# Altium integrated library Microchip Wireless.IntLib: 91 symbols (part 3 of 3)
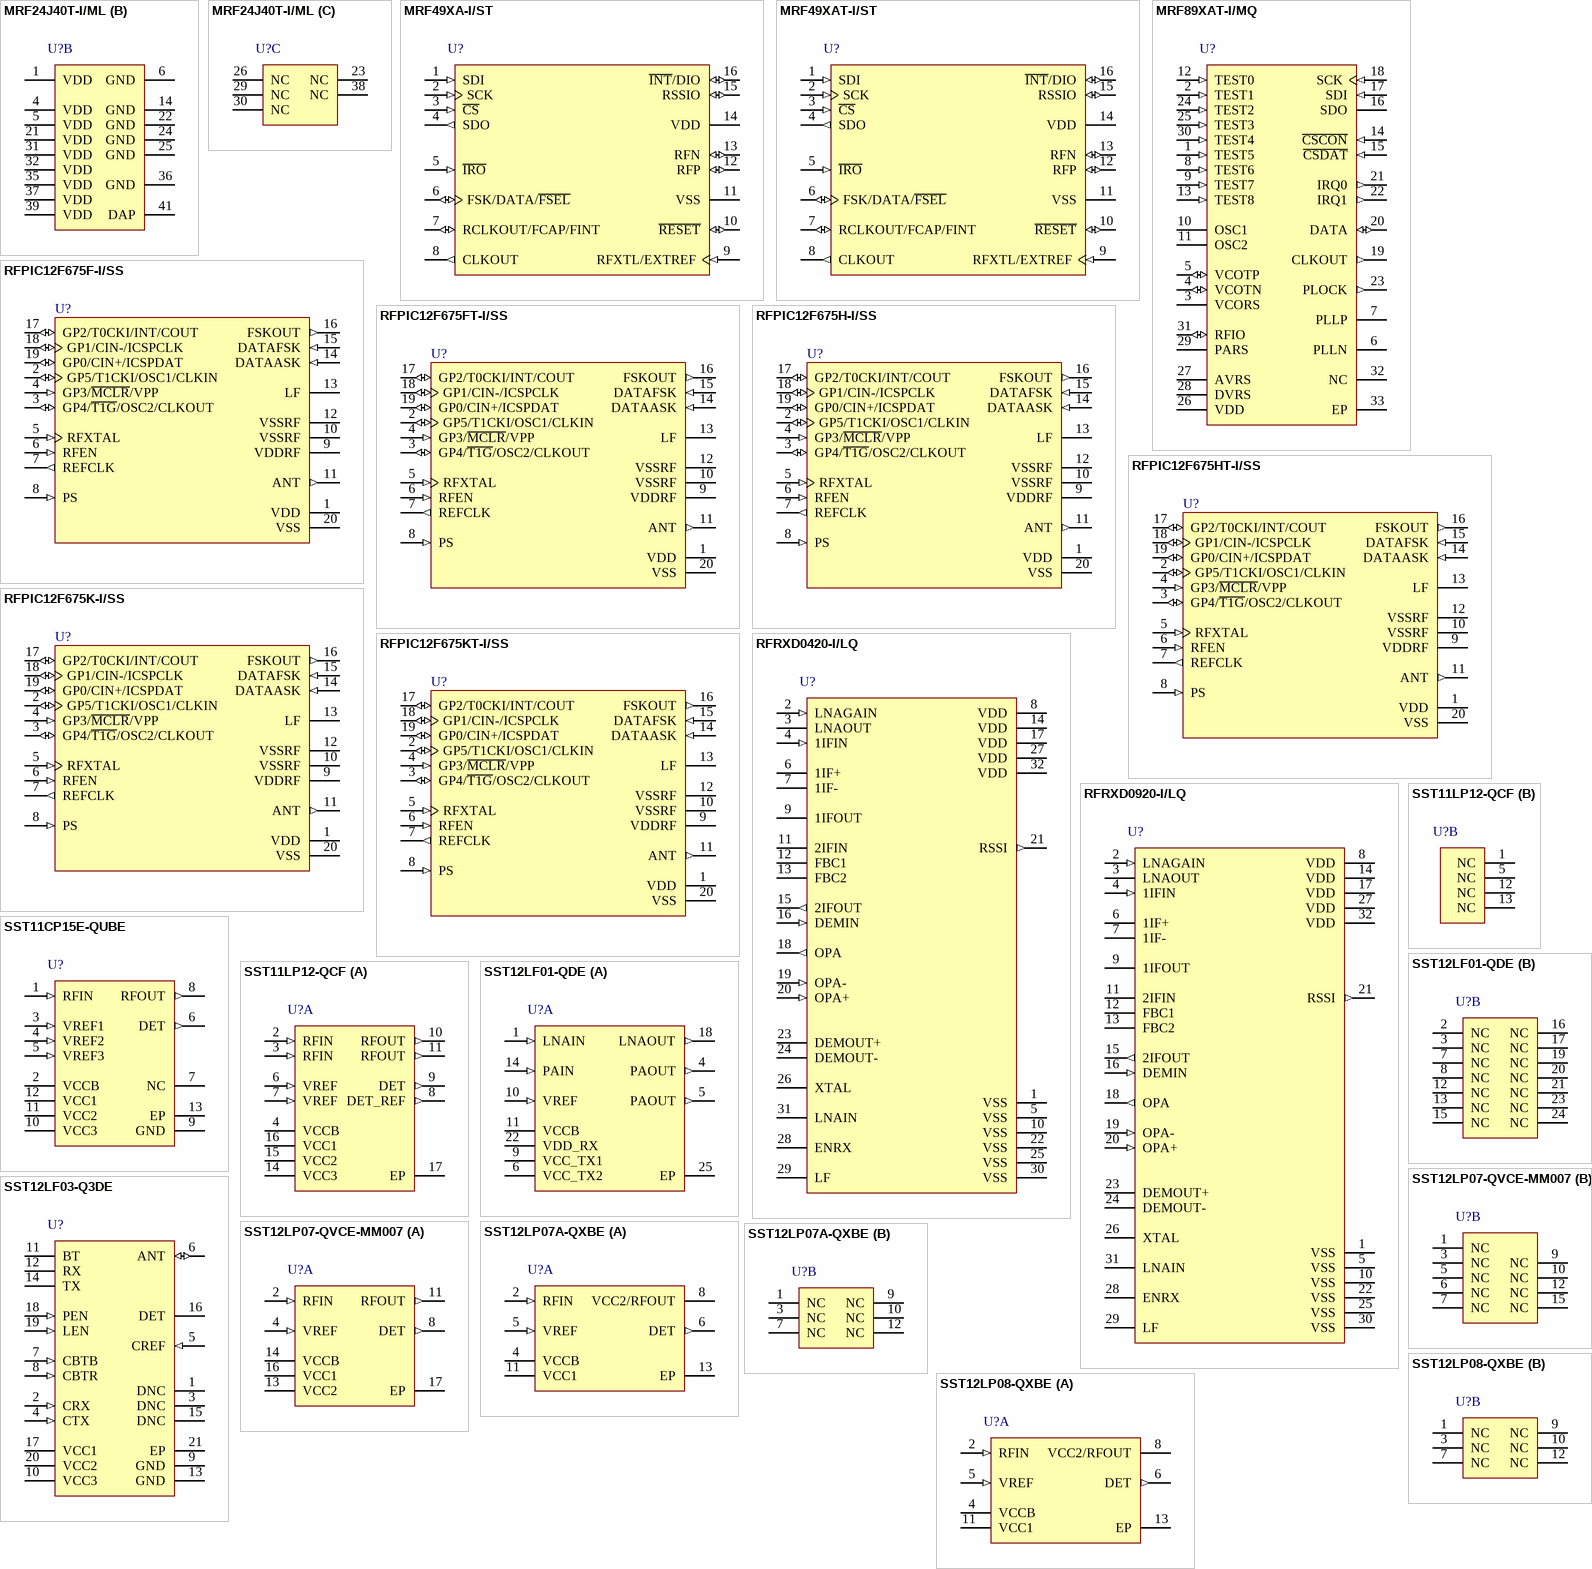
[diagram p5: symbols MRF24J40T-I/ML to SST12LP08-QXBE]

## RFPIC12F675F-I/SS
designator U?
FLASH-Based Microcontroller with ASK/FSK Transmitter, 434 MHz, 20-Pin SSOP, Industrial Temperature; Manufacturer: Microchip; PartNumber: RFPIC12F675F-I/SS; DatasheetVersion: revA, Apr-2003; PackageVersion: revBB, Aug-2009; PackageReference: SSOP-SS20; PackageDescription: 20-Lead Plastic Shrink Small Outline (SS) - 5.3mm Body [SSOP]; Supplier 1: Digi-Key; Supplier Part Number 1: RFPIC12F675F-I/SS-ND; Supplier 2: Newark; Supplier Part Number 2: 67K3329; Supplier 3: Mouser; Supplier Part Number 3: 579-PIC12F675F-I/SS; Mounting Technology: Surface Mount; Code_JEDEC: MO-150; ComponentLink1Description: Manufacturer URL; ComponentLink1URL: http://www.microchip.com/; ComponentLink2Description: Datasheet; ComponentLink2URL: http://ww1.microchip.com/downloads/en/DeviceDoc/70091a.pdf; ComponentLink3Description: Package Specification; ComponentLink3URL: http://www.microchip.com/stellent/groups/techpub_sg/documents/packagingspec/en012702.pdf
footprint SSOP-SS20_N (SOP, 20-Leads, Body 7.2x5.2mm, Pitch 0.65mm, IPC Medium Density)
footprint SSOP-SS20_L (SOP, 20-Leads, Body 7.2x5.2mm, Pitch 0.65mm, IPC High Density)
footprint SSOP-SS20_M (SOP, 20-Leads, Body 7.2x5.2mm, Pitch 0.65mm, IPC Low Density)
pins: 1 VDD (power), 2 GP5/T1CKI/OSC1/CLKIN (io), 3 GP4/~{T1G}/OSC2/CLKOUT (io), 4 GP3/~{MCLR}/VPP (in), 5 RFXTAL (in), 6 RFEN (in), 7 REFCLK (out), 8 PS (in), 9 VDDRF (power), 10 VSSRF (power), 11 ANT (out), 12 VSSRF (power), 13 LF, 14 DATAASK (in), 15 DATAFSK (in), 16 FSKOUT (out), 17 GP2/T0CKI/INT/COUT (io), 18 GP1/CIN-/ICSPCLK (io), 19 GP0/CIN+/ICSPDAT (io), 20 VSS (power)

## RFPIC12F675FT-I/SS
designator U?
FLASH-Based Microcontroller with ASK/FSK Transmitter, 434 MHz, 20-Pin SSOP, Industrial Temperature, Tape and Reel; Manufacturer: Microchip; PartNumber: RFPIC12F675FT-I/SS; DatasheetVersion: revA, Apr-2003; PackageVersion: revBB, Aug-2009; PackageReference: SSOP-SS20; PackageDescription: 20-Lead Plastic Shrink Small Outline (SS) - 5.3mm Body [SSOP]; Supplier 1: Digi-Key; Supplier Part Number 1: RFPIC12F675FT-ISS-ND; Supplier 2: Newark; Supplier Part Number 2: 29H5119; Supplier 3: Mouser; Supplier Part Number 3: 579-PIC12F675FT-ISS; Mounting Technology: Surface Mount; Code_JEDEC: MO-150; ComponentLink1Description: Manufacturer URL; ComponentLink1URL: http://www.microchip.com/; ComponentLink2Description: Datasheet; ComponentLink2URL: http://ww1.microchip.com/downloads/en/DeviceDoc/70091a.pdf; ComponentLink3Description: Package Specification; ComponentLink3URL: http://www.microchip.com/stellent/groups/techpub_sg/documents/packagingspec/en012702.pdf
footprint SSOP-SS20_N (SOP, 20-Leads, Body 7.2x5.2mm, Pitch 0.65mm, IPC Medium Density)
footprint SSOP-SS20_L (SOP, 20-Leads, Body 7.2x5.2mm, Pitch 0.65mm, IPC High Density)
footprint SSOP-SS20_M (SOP, 20-Leads, Body 7.2x5.2mm, Pitch 0.65mm, IPC Low Density)
pins: 1 VDD (power), 2 GP5/T1CKI/OSC1/CLKIN (io), 3 GP4/~{T1G}/OSC2/CLKOUT (io), 4 GP3/~{MCLR}/VPP (in), 5 RFXTAL (in), 6 RFEN (in), 7 REFCLK (out), 8 PS (in), 9 VDDRF (power), 10 VSSRF (power), 11 ANT (out), 12 VSSRF (power), 13 LF, 14 DATAASK (in), 15 DATAFSK (in), 16 FSKOUT (out), 17 GP2/T0CKI/INT/COUT (io), 18 GP1/CIN-/ICSPCLK (io), 19 GP0/CIN+/ICSPDAT (io), 20 VSS (power)

## RFPIC12F675H-I/SS
designator U?
FLASH-Based Microcontroller with ASK/FSK Transmitter, 868 MHz, 20-Pin SSOP, Industrial Temperature; Manufacturer: Microchip; PartNumber: RFPIC12F675H-I/SS; DatasheetVersion: revA, Apr-2003; PackageVersion: revBB, Aug-2009; PackageReference: SSOP-SS20; PackageDescription: 20-Lead Plastic Shrink Small Outline (SS) - 5.3mm Body [SSOP]; Supplier 1: Digi-Key; Supplier Part Number 1: RFPIC12F675H-I/SS-ND; Supplier 2: Mouser; Supplier Part Number 2: 579-RF12F675H-I/SS; Mounting Technology: Surface Mount; Code_JEDEC: MO-150; ComponentLink1Description: Manufacturer URL; ComponentLink1URL: http://www.microchip.com/; ComponentLink2Description: Datasheet; ComponentLink2URL: http://ww1.microchip.com/downloads/en/DeviceDoc/70091a.pdf; ComponentLink3Description: Package Specification; ComponentLink3URL: http://www.microchip.com/stellent/groups/techpub_sg/documents/packagingspec/en012702.pdf
footprint SSOP-SS20_N (SOP, 20-Leads, Body 7.2x5.2mm, Pitch 0.65mm, IPC Medium Density)
footprint SSOP-SS20_L (SOP, 20-Leads, Body 7.2x5.2mm, Pitch 0.65mm, IPC High Density)
footprint SSOP-SS20_M (SOP, 20-Leads, Body 7.2x5.2mm, Pitch 0.65mm, IPC Low Density)
pins: 1 VDD (power), 2 GP5/T1CKI/OSC1/CLKIN (io), 3 GP4/~{T1G}/OSC2/CLKOUT (io), 4 GP3/~{MCLR}/VPP (in), 5 RFXTAL (in), 6 RFEN (in), 7 REFCLK (out), 8 PS (in), 9 VDDRF (power), 10 VSSRF (power), 11 ANT (out), 12 VSSRF (power), 13 LF, 14 DATAASK (in), 15 DATAFSK (in), 16 FSKOUT (out), 17 GP2/T0CKI/INT/COUT (io), 18 GP1/CIN-/ICSPCLK (io), 19 GP0/CIN+/ICSPDAT (io), 20 VSS (power)

## RFPIC12F675HT-I/SS
designator U?
FLASH-Based Microcontroller with ASK/FSK Transmitter, 868 MHz, 20-Pin SSOP, Industrial Temperature, Tape and Reel; Manufacturer: Microchip; PartNumber: RFPIC12F675HT-I/SS; DatasheetVersion: revA, Apr-2003; PackageVersion: revBB, Aug-2009; PackageReference: SSOP-SS20; PackageDescription: 20-Lead Plastic Shrink Small Outline (SS) - 5.3mm Body [SSOP]; Supplier 1: Digi-Key; Supplier Part Number 1: RFPIC12F675HT-ISS-ND; Supplier 2: Mouser; Supplier Part Number 2: 579-RF12F675HT-I/SS; Mounting Technology: Surface Mount; Code_JEDEC: MO-150; ComponentLink1Description: Manufacturer URL; ComponentLink1URL: http://www.microchip.com/; ComponentLink2Description: Datasheet; ComponentLink2URL: http://ww1.microchip.com/downloads/en/DeviceDoc/70091a.pdf; ComponentLink3Description: Package Specification; ComponentLink3URL: http://www.microchip.com/stellent/groups/techpub_sg/documents/packagingspec/en012702.pdf
footprint SSOP-SS20_N (SOP, 20-Leads, Body 7.2x5.2mm, Pitch 0.65mm, IPC Medium Density)
footprint SSOP-SS20_L (SOP, 20-Leads, Body 7.2x5.2mm, Pitch 0.65mm, IPC High Density)
footprint SSOP-SS20_M (SOP, 20-Leads, Body 7.2x5.2mm, Pitch 0.65mm, IPC Low Density)
pins: 1 VDD (power), 2 GP5/T1CKI/OSC1/CLKIN (io), 3 GP4/~{T1G}/OSC2/CLKOUT (io), 4 GP3/~{MCLR}/VPP (in), 5 RFXTAL (in), 6 RFEN (in), 7 REFCLK (out), 8 PS (in), 9 VDDRF (power), 10 VSSRF (power), 11 ANT (out), 12 VSSRF (power), 13 LF, 14 DATAASK (in), 15 DATAFSK (in), 16 FSKOUT (out), 17 GP2/T0CKI/INT/COUT (io), 18 GP1/CIN-/ICSPCLK (io), 19 GP0/CIN+/ICSPDAT (io), 20 VSS (power)

## RFPIC12F675K-I/SS
designator U?
FLASH-Based Microcontroller with ASK/FSK Transmitter, 315 MHz, 20-Pin SSOP, Industrial Temperature; Manufacturer: Microchip; PartNumber: RFPIC12F675K-I/SS; DatasheetVersion: revA, Apr-2003; PackageVersion: revBB, Aug-2009; PackageReference: SSOP-SS20; PackageDescription: 20-Lead Plastic Shrink Small Outline (SS) - 5.3mm Body [SSOP]; Supplier 1: Mouser; Supplier Part Number 1: 579-PIC12F675K-ISS; Mounting Technology: Surface Mount; Code_JEDEC: MO-150; ComponentLink1Description: Manufacturer URL; ComponentLink1URL: http://www.microchip.com/; ComponentLink2Description: Datasheet; ComponentLink2URL: http://ww1.microchip.com/downloads/en/DeviceDoc/70091a.pdf; ComponentLink3Description: Package Specification; ComponentLink3URL: http://www.microchip.com/stellent/groups/techpub_sg/documents/packagingspec/en012702.pdf
footprint SSOP-SS20_N (SOP, 20-Leads, Body 7.2x5.2mm, Pitch 0.65mm, IPC Medium Density)
footprint SSOP-SS20_L (SOP, 20-Leads, Body 7.2x5.2mm, Pitch 0.65mm, IPC High Density)
footprint SSOP-SS20_M (SOP, 20-Leads, Body 7.2x5.2mm, Pitch 0.65mm, IPC Low Density)
pins: 1 VDD (power), 2 GP5/T1CKI/OSC1/CLKIN (io), 3 GP4/~{T1G}/OSC2/CLKOUT (io), 4 GP3/~{MCLR}/VPP (in), 5 RFXTAL (in), 6 RFEN (in), 7 REFCLK (out), 8 PS (in), 9 VDDRF (power), 10 VSSRF (power), 11 ANT (out), 12 VSSRF (power), 13 LF, 14 DATAASK (in), 15 DATAFSK (in), 16 FSKOUT (out), 17 GP2/T0CKI/INT/COUT (io), 18 GP1/CIN-/ICSPCLK (io), 19 GP0/CIN+/ICSPDAT (io), 20 VSS (power)

## RFPIC12F675KT-I/SS
designator U?
FLASH-Based Microcontroller with ASK/FSK Transmitter, 315 MHz, 20-Pin SSOP, Industrial Temperature, Tape and Reel; Manufacturer: Microchip; PartNumber: RFPIC12F675KT-I/SS; DatasheetVersion: revA, Apr-2003; PackageVersion: revBB, Aug-2009; PackageReference: SSOP-SS20; PackageDescription: 20-Lead Plastic Shrink Small Outline (SS) - 5.3mm Body [SSOP]; Supplier 1: Digi-Key; Supplier Part Number 1: RFPIC12F675KT-ISS-ND; Supplier 2: Newark; Supplier Part Number 2: 29H5123; Supplier 3: Mouser; Supplier Part Number 3: 579-PIC12F675KTISS; Mounting Technology: Surface Mount; Code_JEDEC: MO-150; ComponentLink1Description: Manufacturer URL; ComponentLink1URL: http://www.microchip.com/; ComponentLink2Description: Datasheet; ComponentLink2URL: http://ww1.microchip.com/downloads/en/DeviceDoc/70091a.pdf; ComponentLink3Description: Package Specification; ComponentLink3URL: http://www.microchip.com/stellent/groups/techpub_sg/documents/packagingspec/en012702.pdf
footprint SSOP-SS20_N (SOP, 20-Leads, Body 7.2x5.2mm, Pitch 0.65mm, IPC Medium Density)
footprint SSOP-SS20_L (SOP, 20-Leads, Body 7.2x5.2mm, Pitch 0.65mm, IPC High Density)
footprint SSOP-SS20_M (SOP, 20-Leads, Body 7.2x5.2mm, Pitch 0.65mm, IPC Low Density)
pins: 1 VDD (power), 2 GP5/T1CKI/OSC1/CLKIN (io), 3 GP4/~{T1G}/OSC2/CLKOUT (io), 4 GP3/~{MCLR}/VPP (in), 5 RFXTAL (in), 6 RFEN (in), 7 REFCLK (out), 8 PS (in), 9 VDDRF (power), 10 VSSRF (power), 11 ANT (out), 12 VSSRF (power), 13 LF, 14 DATAASK (in), 15 DATAFSK (in), 16 FSKOUT (out), 17 GP2/T0CKI/INT/COUT (io), 18 GP1/CIN-/ICSPCLK (io), 19 GP0/CIN+/ICSPDAT (io), 20 VSS (power)

## RFRXD0420-I/LQ
designator U?
UHF ASK/FSK/FM Receiver, 32-Pin LQFP, Industrial Temperature; Manufacturer: Microchip; PartNumber: RFRXD0420-I/LQ; DatasheetVersion: revA, 2008; PackageVersion: revBB, Aug-2009; PackageReference: LQFP-PL32; PackageDescription: 32-Lead Plastic Low-Profile Quad Flatpack (PL) - 7x7x1.4 mm Body, 2.0 mm [LQFP]; Supplier 1: Digi-Key; Supplier Part Number 1: RFRXD0420-I/LQ-ND; Supplier 2: Mouser; Supplier Part Number 2: 579-RFRXD0420-I/LQ; Mounting Technology: Surface Mount; ComponentLink1Description: Manufacturer URL; ComponentLink1URL: http://www.microchip.com/; ComponentLink2Description: Datasheet; ComponentLink2URL: http://ww1.microchip.com/downloads/en/DeviceDoc/70090a.pdf; ComponentLink3Description: Package Specification; ComponentLink3URL: http://www.microchip.com/stellent/groups/techpub_sg/documents/packagingspec/en012702.pdf
footprint LQFP-PL32_N (Thin QFP, 32-Leads, Body 7x7mm, Pitch 0.8mm, IPC Medium Density)
footprint LQFP-PL32_L (Thin QFP, 32-Leads, Body 7x7mm, Pitch 0.8mm, IPC High Density)
footprint LQFP-PL32_M (Thin QFP, 32-Leads, Body 7x7mm, Pitch 0.8mm, IPC Low Density)
pins: 1 VSS (power), 2 LNAGAIN (in), 3 LNAOUT (oc), 4 1IFIN (in), 5 VSS (power), 6 1IF+, 7 1IF-, 8 VDD (power), 9 1IFOUT, 10 VSS (power), 11 2IFIN, 12 FBC1, 13 FBC2, 14 VDD (power), 15 2IFOUT (out), 16 DEMIN (in), 17 VDD (power), 18 OPA (out), 19 OPA- (in), 20 OPA+ (in), 21 RSSI (out), 22 VSS (power), 23 DEMOUT+, 24 DEMOUT-, 25 VSS (power), 26 XTAL, 27 VDD (power), 28 ENRX, 29 LF, 30 VSS (power), 31 LNAIN, 32 VDD (power)

## RFRXD0920-I/LQ
designator U?
UHF ASK/FSK/FM Receiver, 32-Pin LQFP, Industrial Temperature; Manufacturer: Microchip; PartNumber: RFRXD0920-I/LQ; DatasheetVersion: revA, 2008; PackageVersion: revBB, Aug-2009; PackageReference: LQFP-PL32; PackageDescription: 32-Lead Plastic Low-Profile Quad Flatpack (PL) - 7x7x1.4 mm Body, 2.0 mm [LQFP]; Supplier 1: Digi-Key; Supplier Part Number 1: RFRXD0920-I/LQ-ND; Supplier 2: Mouser; Supplier Part Number 2: 579-RFRXD0920-I/LQ; Mounting Technology: Surface Mount; ComponentLink1Description: Manufacturer URL; ComponentLink1URL: http://www.microchip.com/; ComponentLink2Description: Datasheet; ComponentLink2URL: http://ww1.microchip.com/downloads/en/DeviceDoc/70090a.pdf; ComponentLink3Description: Package Specification; ComponentLink3URL: http://www.microchip.com/stellent/groups/techpub_sg/documents/packagingspec/en012702.pdf
footprint LQFP-PL32_N (Thin QFP, 32-Leads, Body 7x7mm, Pitch 0.8mm, IPC Medium Density)
footprint LQFP-PL32_L (Thin QFP, 32-Leads, Body 7x7mm, Pitch 0.8mm, IPC High Density)
footprint LQFP-PL32_M (Thin QFP, 32-Leads, Body 7x7mm, Pitch 0.8mm, IPC Low Density)
pins: 1 VSS (power), 2 LNAGAIN (in), 3 LNAOUT (oc), 4 1IFIN (in), 5 VSS (power), 6 1IF+, 7 1IF-, 8 VDD (power), 9 1IFOUT, 10 VSS (power), 11 2IFIN, 12 FBC1, 13 FBC2, 14 VDD (power), 15 2IFOUT (out), 16 DEMIN (in), 17 VDD (power), 18 OPA (out), 19 OPA- (in), 20 OPA+ (in), 21 RSSI (out), 22 VSS (power), 23 DEMOUT+, 24 DEMOUT-, 25 VSS (power), 26 XTAL, 27 VDD (power), 28 ENRX, 29 LF, 30 VSS (power), 31 LNAIN, 32 VDD (power)

## SST11CP15E-QUBE
designator U?
4.9 to 5.9 GHz High-Linearity Power Amplifier, 26 to 29 dB Gain, 3 to 5 V, -20 to 85 degC, 12-pin UQFN (QUB12), Tape and Reel; Manufacturer: Microchip; PartNumber: SST11CP15E-QUBE; DatasheetVersion: Rev. B; PackageVersion: Rev. B; PackageReference: UQFN-QUB12; PackageDescription: 12-Lead Ultra-thin Quad Flat No-lead, 2 x 2 mm Body, 0.4 mm Pitch; Supplier 1: Digi-Key; Supplier Part Number 1: SST11CP15E-QUBE-ND; Supplier 2: Newark; Supplier Part Number 2: 64T1264; Supplier 3: Mouser; Supplier Part Number 3: 579-SST11CP15E-QUBE; Mounting Technology: Surface Mount; ComponentLink1Description: Manufacturer URL; ComponentLink1URL: http://www.microchip.com; ComponentLink2Description: Datasheet; ComponentLink2URL: http://ww1.microchip.com/downloads/en/DeviceDoc/75025B.pdf; ComponentLink3Description: Package Specification; ComponentLink3URL: http://ww1.microchip.com/downloads/en/DeviceDoc/75025B.pdf; ComponentLink4Description: Product URL; ComponentLink4URL: http://www.microchip.com/SST11CP15
footprint MCHP-UQFN-QUB12_N (QFN, 12-Leads, Body 2x2mm, Pitch 0.4mm, Thermal Pad 0.92X0.92mm, IPC Medium Density)
footprint MCHP-UQFN-QUB12_L (QFN, 12-Leads, Body 2x2mm, Pitch 0.4mm, Thermal Pad 0.92X0.92mm, IPC High Density)
footprint MCHP-UQFN-QUB12_M (QFN, 12-Leads, Body 2x2mm, Pitch 0.4mm, Thermal Pad 0.92X0.92mm, IPC Low Density)
pins: 1 RFIN (in) "RF input, DC decoupled", 2 VCCB (power) "Supply voltage for bias circuit", 3 VREF1 (in) "Current Control", 4 VREF2 (in) "Current Control", 5 VREF3 (in) "Current Control", 6 DET (out) "On-chip power detector", 7 NC "Unconnected pin", 8 RFOUT (out) "RF Output", 9 GND (power) "Ground (NC is acceptable)", 10 VCC3 (power) "Power supply, 3rd stage", 11 VCC2 (power) "Power supply, 2nd stage", 12 VCC1 (power) "Power supply, 1st stage", 13 EP (power) "The center pad should be connected to RF ground with several low inductance, low resistance vias."

## SST11LP12-QCF
designator U?
4.9 to 5.9 GHz High-Linearity Power Amplifier, 28 to 34 dB Gain, 3 to 4.2 V, -40 to 85 degC, 16-pin WQFN (QC16), Tape and Reel; Manufacturer: Microchip; PartNumber: SST11LP12-QCF; DatasheetVersion: Rev. A; PackageVersion: Rev. A; PackageReference: WQFN-QC16; PackageDescription: 16-Lead Very-Thin Quad Flat No-lead, 3 x 3 mm Body, 0.5 mm Pitch; Supplier 1: Digi-Key; Supplier Part Number 1: SST11LP12-QCFTR-ND; Supplier 2: Digi-Key; Supplier Part Number 2: SST11LP12-QCFCT-ND; Supplier 3: Digi-Key; Supplier Part Number 3: SST11LP12-QCFDKR-ND; Supplier 4: Farnell; Supplier Part Number 4: 1971846RL; Supplier 5: Farnell; Supplier Part Number 5: 1971846; Supplier 6: Newark; Supplier Part Number 6: 58T7505; Supplier 7: Newark; Supplier Part Number 7: 92R4498; Supplier 8: Mouser; Supplier Part Number 8: 804-SST11LP12-QCF; Mounting Technology: Surface Mount; Code_JEDEC: MO-220J; ComponentLink1Description: Manufacturer URL; ComponentLink1URL: http://www.microchip.com; ComponentLink2Description: Datasheet; ComponentLink2URL: http://ww1.microchip.com/downloads/en/DeviceDoc/75047A.pdf; ComponentLink3Description: Package Specification; ComponentLink3URL: http://ww1.microchip.com/downloads/en/DeviceDoc/75047A.pdf; ComponentLink4Description: Product URL; ComponentLink4URL: http://www.microchip.com/SST11LP12
footprint MCHP-WQFN-QC16_N (QFN, 16-Leads, Body 3x3mm, Pitch 0.5mm, Thermal Pad 1.7x1.7mm, IPC Medium Density)
footprint MCHP-WQFN-QC16_L (QFN, 16-Leads, Body 3x3mm, Pitch 0.5mm, Thermal Pad 1.7x1.7mm, IPC High Density)
footprint MCHP-WQFN-QC16_M (QFN, 16-Leads, Body 3x3mm, Pitch 0.5mm, Thermal Pad 1.7x1.7mm, IPC Low Density)
part A pins: 2 RFIN (in) "RF input, DC decoupled", 3 RFIN (in) "RF input, DC decoupled", 4 VCCB (power) "Supply voltage for bias circuit", 6 VREF (in) "Current Control", 7 VREF (in) "Current Control", 8 DET_REF (out) "On-chip power detector reference", 9 DET (out) "On-chip power detector", 10 RFOUT (out) "RF output", 11 RFOUT (out) "RF output", 14 VCC3 (power) "Power supply, 3rd stage", 15 VCC2 (power) "Power supply, 2nd stage", 16 VCC1 (power) "Power supply, 1st stage", 17 EP (power) "The center pad should be connected to RF ground with several low inductance, low resistance vias."
part B pins: 1 NC "Unconnected pin", 5 NC "Unconnected pin", 12 NC "Unconnected pin", 13 NC "Unconnected pin"

## SST12LF01-QDE
designator U?
2.4 GHz Front-End Module, 29 dB Gain, 3 to 4.2 V, 24-pin WQFN (QD24), Tape and Reel; Manufacturer: Microchip; PartNumber: SST12LF01-QDE; DatasheetVersion: Rev. A; PackageVersion: Rev. A; PackageReference: WQFN-QD24; PackageDescription: 24-Lead Very-Very-Thin Quad Flat No-lead, 4 x 4 mm Body, 0.5 mm Pitch; Supplier 1: Digi-Key; Supplier Part Number 1: SST12LF01-QDETR-ND; Supplier 2: Digi-Key; Supplier Part Number 2: SST12LF01-QDECT-ND; Supplier 3: Digi-Key; Supplier Part Number 3: SST12LF01-QDEDKR-ND; Supplier 4: Newark; Supplier Part Number 4: 92R4500; Supplier 5: Mouser; Supplier Part Number 5: 804-SST12LF01-QDE; Mounting Technology: Surface Mount; Code_JEDEC: MO-220J; ComponentLink1Description: Manufacturer URL; ComponentLink1URL: http://www.microchip.com; ComponentLink2Description: Datasheet; ComponentLink2URL: http://ww1.microchip.com/downloads/en/DeviceDoc/75040A.pdf; ComponentLink3Description: Package Specification; ComponentLink3URL: http://ww1.microchip.com/downloads/en/DeviceDoc/75040A.pdf; ComponentLink4Description: Product URL; ComponentLink4URL: http://www.microchip.com/SST12LF01
footprint MCHP-WQFN-QD24_N (QFN, 24-Leads, Body 4x4mm, Pitch 0.5mm, Thermal Pad 2.3x2.3mm, IPC Medium Density)
footprint MCHP-WQFN-QD24_L (QFN, 24-Leads, Body 4x4mm, Pitch 0.5mm, Thermal Pad 2.3x2.3mm, IPC High Density)
footprint MCHP-WQFN-QD24_M (QFN, 24-Leads, Body 4x4mm, Pitch 0.5mm, Thermal Pad 2.3x2.3mm, IPC Low Density)
part A pins: 1 LNAIN (in) "LNA RF Input", 4 PAOUT (out) "PA RF output", 5 PAOUT (out) "PA RF output", 6 VCC_TX2 (power) "PA power supply, 2nd stage", 9 VCC_TX1 (power) "PA power supply,1st stage", 10 VREF (in) "PA-enable and current control", 11 VCCB (power) "PA power supply, bias circuit", 14 PAIN (in) "PA RF input", 18 LNAOUT (out) "LNA RF Output", 22 VDD_RX (power) "LNA power supply", 25 EP (power)
part B pins: 2 NC "Unconnected pin", 3 NC "Unconnected pin", 7 NC "Unconnected pin", 8 NC "Unconnected pin", 12 NC "Unconnected pin", 13 NC "Unconnected pin", 15 NC "Unconnected pin", 16 NC "Unconnected pin", 17 NC "Unconnected pin", 19 NC "Unconnected pin", 20 NC "Unconnected pin", 21 NC "Unconnected pin", 23 NC "Unconnected pin", 24 NC "Unconnected pin"

## SST12LF03-Q3DE
designator U?
2.4 GHz High-Gain, High-Efficiency Front-End Module, 28 dB Gain, 3 to 4.2 V, 20-pin UQFN (Q3D20), Tape and Reel; Manufacturer: Microchip; PartNumber: SST12LF03-Q3DE; DatasheetVersion: Rev. 00; PackageVersion: Rev. 00; PackageReference: UQFN-Q3D20; PackageDescription: 20-Lead Ultra-thin Qual Flat No-Lead, 3 x 3 mm Body, 0.4 mm Pitch; Supplier 1: Digi-Key; Supplier Part Number 1: SST12LF03-Q3DETR-ND; Supplier 2: Digi-Key; Supplier Part Number 2: SST12LF03-Q3DECT-ND; Supplier 3: Digi-Key; Supplier Part Number 3: SST12LF03-Q3DEDKR-ND; Supplier 4: Newark; Supplier Part Number 4: 64T1265; Supplier 5: Mouser; Supplier Part Number 5: 579-SST12LF03-Q3DE; Mounting Technology: Surface Mount; Code_JEDEC: MO-248E; ComponentLink1Description: Manufacturer URL; ComponentLink1URL: http://www.microchip.com; ComponentLink2Description: Datasheet; ComponentLink2URL: http://ww1.microchip.com/downloads/en/DeviceDoc/75010A.pdf; ComponentLink3Description: Package Specification; ComponentLink3URL: http://ww1.microchip.com/downloads/en/DeviceDoc/75010A.pdf; ComponentLink4Description: Product URL; ComponentLink4URL: http://www.microchip.com/SST12LF03
footprint MCHP-UQFN-Q3D20_N (QFN, 20-Leads, Body 3x3mm, , Thermal Pad 1.7x1.7mm, IPC Medium Density)
footprint MCHP-UQFN-Q3D20_L (QFN, 20-Leads, Body 3x3mm, , Thermal Pad 1.7x1.7mm, IPC High Density)
footprint MCHP-UQFN-Q3D20_M (QFN, 20-Leads, Body 3x3mm, , Thermal Pad 1.7x1.7mm, IPC Low Density)
pins: 1 DNC "Do not connect to this pin", 2 CRX (in) "WLAN Receive Antenna Switch control", 3 DNC "Do not connect to this pin", 4 CTX (in) "WLAN Transmit Antenna Switch control", 5 CREF (in) "Control pin reference high-level input", 6 ANT (io) "Antenna port, AC coupled", 7 CBTB (in) "BT antenna switch control", 8 CBTR (in) "Switch control for simultaneous BT/RX", 9 GND (power) "Ground pin", 10 VCC3 (power) "LNA power supply", 11 BT "BT port, AC coupled", 12 RX "WLAN receive port, AC coupled", 13 GND (power) "Ground pin", 14 TX "WLAN transmit port, AC coupled", 15 DNC "Do not connect to this pin", 16 DET "WLAN transmit power detector", 17 VCC1 (power) "WLAN power amplifier power supply #1", 18 PEN (in) "WLAN PA enable", 19 LEN (in) "LNA enable", 20 VCC2 (power) "WLAN power amplifier power supply #2", 21 EP (power) "Ground pin"

## SST12LP07-QVCE-MM007
designator U?
2.4 GHz High-Power, High-Gain Power Amplifier, 29 dB Gain, 3 to 4.2 V, -40 to 85 degC, 16-pin VQFN (QVC16), Tape and Reel; Manufacturer: Microchip; PartNumber: SST12LP07-QVCE-MM007; DatasheetVersion: Rev. A; PackageVersion: Rev. A; PackageReference: VQFN-QVC16; PackageDescription: 16-Lead Very-thin Quad Flat No-lead, 3 x 3 mm Body, 0.5 mm Pitch; Supplier 1: Digi-Key; Supplier Part Number 1: SST12LP07-QVCE-MM007TR-ND; Supplier 2: Digi-Key; Supplier Part Number 2: SST12LP07-QVCE-MM007CT-ND; Supplier 3: Digi-Key; Supplier Part Number 3: SST12LP07-QVCE-MM007DKR-ND; Supplier 4: Mouser; Supplier Part Number 4: 804-SST12LP07-QVCE; Mounting Technology: Surface Mount; Code_JEDEC: MO-220J; ComponentLink1Description: Manufacturer URL; ComponentLink1URL: http://www.microchip.com; ComponentLink2Description: Datasheet; ComponentLink2URL: http://ww1.microchip.com/downloads/en/DeviceDoc/75033A.pdf; ComponentLink3Description: Package Specification; ComponentLink3URL: http://ww1.microchip.com/downloads/en/DeviceDoc/75031A.pdf; ComponentLink4Description: Product URL; ComponentLink4URL: http://www.microchip.com/SST12LP07
footprint MCHP-VQFN-QVC16_N (QFN, 16-Leads, Body 3x3mm, Pitch 0.5mm, IPC Medium Density)
footprint MCHP-VQFN-QVC16_L (QFN, 16-Leads, Body 3x3mm, Pitch 0.5mm, IPC High Density)
footprint MCHP-VQFN-QVC16_M (QFN, 16-Leads, Body 3x3mm, Pitch 0.5mm, IPC Low Density)
part A pins: 2 RFIN (in) "RF input, DC decoupled", 4 VREF (in) "1st and 2nd stage idle current control", 8 DET (out) "On-chip power detector", 11 RFOUT (out) "RF output", 13 VCC2 (power) "Power supply, 2nd stage", 14 VCCB (power) "Power supply, bias circuit", 16 VCC1 (power) "Power supply, 1st stage", 17 EP (power) "The center pad should be connected to RF ground with several low inductance, low resistance vias"
part B pins: 1 NC "Unconnected pin", 3 NC "Unconnected pin", 5 NC "Unconnected pin", 6 NC "Unconnected pin", 7 NC "Unconnected pin", 9 NC "Unconnected pin", 10 NC "Unconnected pin", 12 NC "Unconnected pin", 15 NC "Unconnected pin"

## SST12LP07A-QXBE
designator U?
2.4 GHz High-Power, High-Gain Power Amplifier, 28 dB Gain, 3 to 4.2 V, -40 to 85 degC, 12-pin XQFN (QXB12), Tape and Reel; Manufacturer: Microchip; PartNumber: SST12LP07A-QXBE; DatasheetVersion: Rev. A; PackageVersion: Rev. B; PackageReference: XQFN-QXB12; PackageDescription: 12-Lead Extremely-Thin Quad Flat No-lead, 2 x 2 mm Body, 0.4 mm Pitch; Supplier 1: Digi-Key; Supplier Part Number 1: SST12LP07A-QXBETR-ND; Supplier 2: Digi-Key; Supplier Part Number 2: SST12LP07A-QXBECT-ND; Supplier 3: Digi-Key; Supplier Part Number 3: SST12LP07A-QXBEDKR-ND; Supplier 4: Newark; Supplier Part Number 4: 92R4507; Supplier 5: Mouser; Supplier Part Number 5: 804-SST12LP07A-QXBE; Mounting Technology: Surface Mount; Code_JEDEC: MO-220J; ComponentLink1Description: Manufacturer URL; ComponentLink1URL: http://www.microchip.com; ComponentLink2Description: Datasheet; ComponentLink2URL: http://ww1.microchip.com/downloads/en/DeviceDoc/75033A.pdf; ComponentLink3Description: Package Specification; ComponentLink3URL: http://ww1.microchip.com/downloads/en/DeviceDoc/75073B.pdf; ComponentLink4Description: Product URL; ComponentLink4URL: http://www.microchip.com/SST12LP07
footprint MCHP-XQFN-QXB12_N (QFN, 12-Leads, Body 2x2mm, Pitch 0.4mm, Thermal Pad 0.92x0.92mm, IPC Medium Density)
footprint MCHP-XQFN-QXB12_L (QFN, 12-Leads, Body 2x2mm, Pitch 0.4mm, Thermal Pad 0.92x0.92mm, IPC High Density)
footprint MCHP-XQFN-QXB12_M (QFN, 12-Leads, Body 2x2mm, Pitch 0.4mm, Thermal Pad 0.92x0.92mm, IPC Low Density)
part A pins: 2 RFIN (in) "RF input, DC decoupled", 4 VCCB (power) "Supply voltage for bias circuit", 5 VREF (in) "1st and 2nd stage idle current control", 6 DET (out) "On-chip power detector", 8 VCC2/RFOUT (power) "Power Supply, 2nd stage / RF output", 11 VCC1 (power) "Power supply, 1st stage", 13 EP (power) "Low-inductance GND pad"
part B pins: 1 NC "Unconnected pin", 3 NC "Unconnected pin", 7 NC "Unconnected pin", 9 NC "Unconnected pin", 10 NC "Unconnected pin", 12 NC "Unconnected pin"

## SST12LP08-QXBE
designator U?
2.4 GHz High-Power, High-Gain Power Amplifier, 30 dB Gain, 2.75 to 4.2 V, -40 to 85 degC, 12-pin XQFN (QXB12), Tape and Reel; Manufacturer: Microchip; PartNumber: SST12LP08-QXBE; DatasheetVersion: Rev. B; PackageVersion: Rev. B; PackageReference: XQFN-QXB12; PackageDescription: 12-Lead Extremely-Thin Quad Flat No-lead, 2 x 2 mm Body, 0.4 mm Pitch; Supplier 1: Digi-Key; Supplier Part Number 1: SST12LP08-QXBETR-ND; Supplier 2: Digi-Key; Supplier Part Number 2: SST12LP08-QXBECT-ND; Supplier 3: Digi-Key; Supplier Part Number 3: SST12LP08-QXBEDKR-ND; Supplier 4: Farnell; Supplier Part Number 4: 2045305RL; Supplier 5: Farnell; Supplier Part Number 5: 2045305; Supplier 6: Newark; Supplier Part Number 6: 58T7508; Supplier 7: Newark; Supplier Part Number 7: 92R4508; Supplier 8: Mouser; Supplier Part Number 8: 804-SST12LP08-QXBE; Mounting Technology: Surface Mount; Code_JEDEC: MO-220J; ComponentLink1Description: Manufacturer URL; ComponentLink1URL: http://www.microchip.com; ComponentLink2Description: Datasheet; ComponentLink2URL: http://ww1.microchip.com/downloads/en/DeviceDoc/75073B.pdf; ComponentLink3Description: Package Specification; ComponentLink3URL: http://ww1.microchip.com/downloads/en/DeviceDoc/75073B.pdf; ComponentLink4Description: Product URL; ComponentLink4URL: http://www.microchip.com/SST12LP08
footprint MCHP-XQFN-QXB12_N (QFN, 12-Leads, Body 2x2mm, Pitch 0.4mm, Thermal Pad 0.92x0.92mm, IPC Medium Density)
footprint MCHP-XQFN-QXB12_L (QFN, 12-Leads, Body 2x2mm, Pitch 0.4mm, Thermal Pad 0.92x0.92mm, IPC High Density)
footprint MCHP-XQFN-QXB12_M (QFN, 12-Leads, Body 2x2mm, Pitch 0.4mm, Thermal Pad 0.92x0.92mm, IPC Low Density)
part A pins: 2 RFIN (in) "RF input, DC decoupled", 4 VCCB (power) "Supply voltage for bias circuit", 5 VREF (in) "1st and 2nd stage idle current control", 6 DET (out) "On-chip power detector", 8 VCC2/RFOUT (power) "Power Supply, 2nd stage / RF output", 11 VCC1 (power) "Power supply, 1st stage", 13 EP (power) "Low-inductance GND pad"
part B pins: 1 NC "Unconnected pin", 3 NC "Unconnected pin", 7 NC "Unconnected pin", 9 NC "Unconnected pin", 10 NC "Unconnected pin", 12 NC "Unconnected pin"

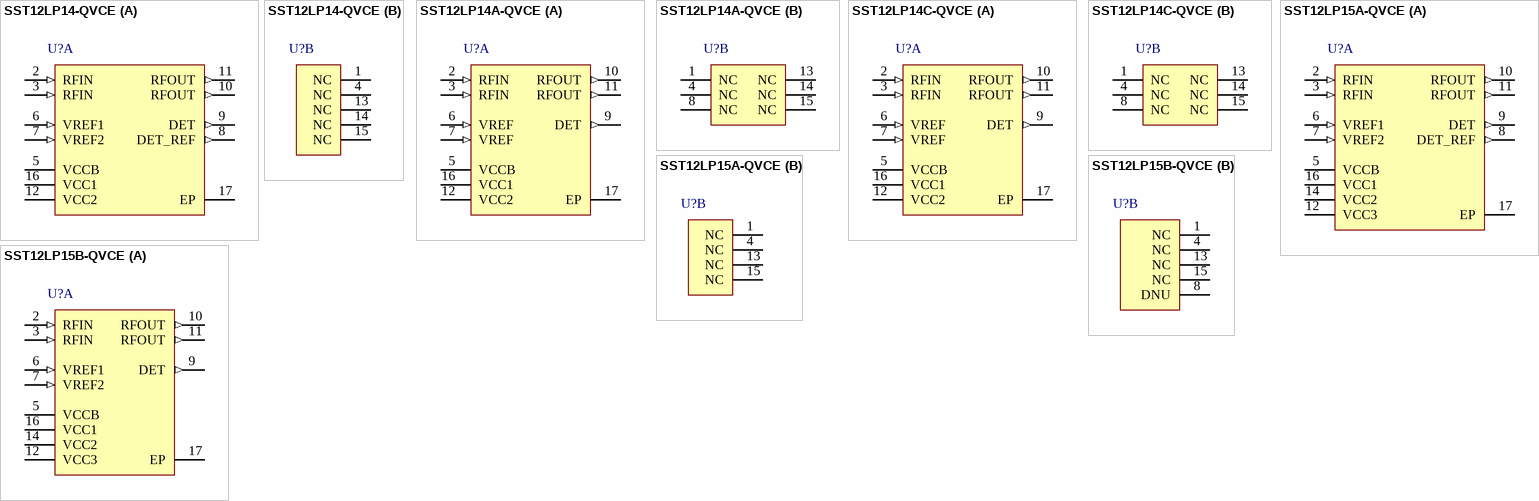
[diagram p3: symbols SST12LP14-QVCE to SST12LP15B-QVCE]

## SST12LP14-QVCE
designator U?
2.4 GHz Power Amplifier, 30 dB Gain, 3 to 4.2 V, -40 to 85 degC, 16-pin VQFN (QVC16), Tape and Reel; Manufacturer: Microchip; PartNumber: SST12LP14-QVCE; DatasheetVersion: Rev. A; PackageVersion: Rev. A; PackageReference: VQFN-QVC16; PackageDescription: 16-Lead Very-thin Quad Flat No-lead, 3 x 3 mm Body, 0.5 mm Pitch; Supplier 1: Digi-Key; Supplier Part Number 1: SST12LP14-QVCETR-ND; Supplier 2: Digi-Key; Supplier Part Number 2: SST12LP14-QVCECT-ND; Supplier 3: Digi-Key; Supplier Part Number 3: SST12LP14-QVCEDKR-ND; Supplier 4: Newark; Supplier Part Number 4: 92R4511; Supplier 5: Mouser; Supplier Part Number 5: 804-SST12LP14-QVCE; Mounting Technology: Surface Mount; Code_JEDEC: MO-220J; ComponentLink1Description: Manufacturer URL; ComponentLink1URL: http://www.microchip.com; ComponentLink2Description: Datasheet; ComponentLink2URL: http://ww1.microchip.com/downloads/en/DeviceDoc/75031A.pdf; ComponentLink3Description: Package Specification; ComponentLink3URL: http://ww1.microchip.com/downloads/en/DeviceDoc/75031A.pdf; ComponentLink4Description: Product URL; ComponentLink4URL: http://www.microchip.com/SST12LP14
footprint MCHP-VQFN-QVC16_N (QFN, 16-Leads, Body 3x3mm, Pitch 0.5mm, IPC Medium Density)
footprint MCHP-VQFN-QVC16_L (QFN, 16-Leads, Body 3x3mm, Pitch 0.5mm, IPC High Density)
footprint MCHP-VQFN-QVC16_M (QFN, 16-Leads, Body 3x3mm, Pitch 0.5mm, IPC Low Density)
part A pins: 2 RFIN (in) "RF input, DC decoupled", 3 RFIN (in) "RF input, DC decoupled", 5 VCCB (power) "Supply voltage for bias circuit", 6 VREF1 (in) "1st stage idle current control", 7 VREF2 (in) "2nd stage idle current control", 8 DET_REF (out) "On-chip power detector reference", 9 DET (out) "On-chip power detector", 10 RFOUT (out) "RF output", 11 RFOUT (out) "RF output", 12 VCC2 (power) "Power supply, 2nd stage", 16 VCC1 (power) "Power supply, 1st stage", 17 EP (power) "The center pad should be connected to RF ground with several low inductance, low resistance vias."
part B pins: 1 NC "Unconnected pins.", 4 NC "Unconnected pins.", 13 NC "Unconnected pins.", 14 NC "Unconnected pins.", 15 NC "Unconnected pins."

## SST12LP14A-QVCE
designator U?
2.4 GHz High-Efficiency Amplifier, 29 dB Gain, 3 to 4.2 V, -40 to 85 degC, 16-pin VQFN (QVC16), Tape and Reel; Manufacturer: Microchip; PartNumber: SST12LP14A-QVCE; DatasheetVersion: Rev. A; PackageVersion: Rev. A; PackageReference: VQFN-QVC16; PackageDescription: 16-Lead Very-thin Quad Flat No-lead, 3 x 3 mm Body, 0.5 mm Pitch; Supplier 1: Digi-Key; Supplier Part Number 1: SST12LP14A-QVCETR-ND; Supplier 2: Digi-Key; Supplier Part Number 2: SST12LP14A-QVCECT-ND; Supplier 3: Digi-Key; Supplier Part Number 3: SST12LP14A-QVCEDKR-ND; Supplier 4: Newark; Supplier Part Number 4: 92R4512; Supplier 5: Mouser; Supplier Part Number 5: 804-SST12LP14AQVCE; Mounting Technology: Surface Mount; Code_JEDEC: MO-220J; ComponentLink1Description: Manufacturer URL; ComponentLink1URL: http://www.microchip.com; ComponentLink2Description: Datasheet; ComponentLink2URL: http://ww1.microchip.com/downloads/en/DeviceDoc/75031A.pdf; ComponentLink3Description: Package Specification; ComponentLink3URL: http://ww1.microchip.com/downloads/en/DeviceDoc/75031A.pdf; ComponentLink4Description: Product URL; ComponentLink4URL: http://www.microchip.com/SST12LP14
footprint MCHP-VQFN-QVC16_N (QFN, 16-Leads, Body 3x3mm, Pitch 0.5mm, IPC Medium Density)
footprint MCHP-VQFN-QVC16_L (QFN, 16-Leads, Body 3x3mm, Pitch 0.5mm, IPC High Density)
footprint MCHP-VQFN-QVC16_M (QFN, 16-Leads, Body 3x3mm, Pitch 0.5mm, IPC Low Density)
part A pins: 2 RFIN (in) "RF input", 3 RFIN (in) "RF input", 5 VCCB (power) "Supply voltage for bias circuit", 6 VREF (in) "1st and 2nd stage idle current control", 7 VREF (in) "1st and 2nd stage idle current control", 9 DET (out) "On-chip power detector", 10 RFOUT (out) "RF output", 11 RFOUT (out) "RF output", 12 VCC2 (power) "Power supply, 2nd stage", 16 VCC1 (power) "Power supply, 1st stage", 17 EP (power) "The center pad should be connected to RF ground with several low inductance, low resistance vias."
part B pins: 1 NC "Unconnected pin", 4 NC "Unconnected pin", 8 NC "Unconnected pin", 13 NC "Unconnected pin", 14 NC "Unconnected pin", 15 NC "Unconnected pin"

## SST12LP14C-QVCE
designator U?
2.4 GHz High-Efficiency Amplifier, 32 dB Gain, 3 to 4.2 V, -40 to 85 degC, 16-pin VQFN (QVC16), Tape and Reel; Manufacturer: Microchip; PartNumber: SST12LP14C-QVCE; DatasheetVersion: Rev. A; PackageVersion: Rev. A; PackageReference: VQFN-QVC16; PackageDescription: 16-Lead Very-thin Quad Flat No-lead, 3 x 3 mm Body, 0.5 mm Pitch; Supplier 1: Digi-Key; Supplier Part Number 1: SST12LP14C-QVCETR-ND; Supplier 2: Digi-Key; Supplier Part Number 2: SST12LP14C-QVCECT-ND; Supplier 3: Digi-Key; Supplier Part Number 3: SST12LP14C-QVCEDKR-ND; Supplier 4: Mouser; Supplier Part Number 4: 804-SST12LP14CQVCE; Mounting Technology: Surface Mount; Code_JEDEC: MO-220J; ComponentLink1Description: Manufacturer URL; ComponentLink1URL: http://www.microchip.com; ComponentLink2Description: Datasheet; ComponentLink2URL: http://ww1.microchip.com/downloads/en/DeviceDoc/75031A.pdf; ComponentLink3Description: Package Specification; ComponentLink3URL: http://ww1.microchip.com/downloads/en/DeviceDoc/75031A.pdf; ComponentLink4Description: Product URL; ComponentLink4URL: http://www.microchip.com/SST12LP14
footprint MCHP-VQFN-QVC16_N (QFN, 16-Leads, Body 3x3mm, Pitch 0.5mm, IPC Medium Density)
footprint MCHP-VQFN-QVC16_L (QFN, 16-Leads, Body 3x3mm, Pitch 0.5mm, IPC High Density)
footprint MCHP-VQFN-QVC16_M (QFN, 16-Leads, Body 3x3mm, Pitch 0.5mm, IPC Low Density)
part A pins: 2 RFIN (in) "RF input", 3 RFIN (in) "RF input", 5 VCCB (power) "Supply voltage for bias circuit", 6 VREF (in) "1st and 2nd stage idle current control", 7 VREF (in) "1st and 2nd stage idle current control", 9 DET (out) "On-chip power detector", 10 RFOUT (out) "RF output", 11 RFOUT (out) "RF output", 12 VCC2 (power) "Power supply, 2nd stage", 16 VCC1 (power) "Power supply, 1st stage", 17 EP (power) "The center pad should be connected to RF ground with several low inductance, low resistance vias."
part B pins: 1 NC "Unconnected pin", 4 NC "Unconnected pin", 8 NC "Unconnected pin", 13 NC "Unconnected pin", 14 NC "Unconnected pin", 15 NC "Unconnected pin"

## SST12LP15A-QVCE
designator U?
2.4 GHz High-Power and High-Gain Power Amplifier, 32 dB Gain, 3 to 4.2 V, -40 to 85 degC, 16-pin VQFN (QVC16), Tape and Reel; Manufacturer: Microchip; PartNumber: SST12LP15A-QVCE; DatasheetVersion: Rev. 04; PackageVersion: Rev. A; PackageReference: VQFN-QVC16; PackageDescription: 16-Lead Very-thin Quad Flat No-lead, 3 x 3 mm Body, 0.5 mm Pitch; Supplier 1: Digi-Key; Supplier Part Number 1: SST12LP15A-QVCETR-ND; Supplier 2: Digi-Key; Supplier Part Number 2: SST12LP15A-QVCECT-ND; Supplier 3: Digi-Key; Supplier Part Number 3: SST12LP15A-QVCEDKR-ND; Supplier 4: Newark; Supplier Part Number 4: 92R4517; Supplier 5: Mouser; Supplier Part Number 5: 804-12LP15A-QVCE; Mounting Technology: Surface Mount; Code_JEDEC: MO-220J; ComponentLink1Description: Manufacturer URL; ComponentLink1URL: http://www.microchip.com; ComponentLink2Description: Datasheet; ComponentLink2URL: http://ww1.microchip.com/downloads/en/DeviceDoc/S71291.pdf; ComponentLink3Description: Package Specification; ComponentLink3URL: http://ww1.microchip.com/downloads/en/DeviceDoc/75031A.pdf; ComponentLink4Description: Product URL; ComponentLink4URL: http://www.microchip.com/SST12LP15A
footprint MCHP-VQFN-QVC16_N (QFN, 16-Leads, Body 3x3mm, Pitch 0.5mm, IPC Medium Density)
footprint MCHP-VQFN-QVC16_L (QFN, 16-Leads, Body 3x3mm, Pitch 0.5mm, IPC High Density)
footprint MCHP-VQFN-QVC16_M (QFN, 16-Leads, Body 3x3mm, Pitch 0.5mm, IPC Low Density)
part A pins: 2 RFIN (in) "RF input, DC decoupled", 3 RFIN (in) "RF input, DC decoupled", 5 VCCB (power) "Supply voltage for bias circuit", 6 VREF1 (in) "1st and 2nd stage idle current control", 7 VREF2 (in) "3rd stage idle current control", 8 DET_REF (out) "On-chip power detector reference", 9 DET (out) "On-chip power detector", 10 RFOUT (out) "RF output", 11 RFOUT (out) "RF output", 12 VCC3 (power) "Power supply, 3rd stage", 14 VCC2 (power) "Power supply, 2nd stage", 16 VCC1 (power) "Power supply, 1st stage", 17 EP (power) "The center pad should be connected to RF ground with several low inductance, low resistance vias."
part B pins: 1 NC "Unconnected pins.", 4 NC "Unconnected pins.", 13 NC "Unconnected pins.", 15 NC "Unconnected pins."

## SST12LP15B-QVCE
designator U?
2.4 GHz High-Power, High-Gain Power Amplifier, 32 dB Gain, 3 to 4.2 V, -40 to 85 degC, 16-pin VQFN (QVC16), Tape and Reel; Manufacturer: Microchip; PartNumber: SST12LP15B-QVCE; DatasheetVersion: Rev. A; PackageVersion: Rev. A; PackageReference: VQFN-QVC16; PackageDescription: 16-Lead Very-thin Quad Flat No-lead, 3 x 3 mm Body, 0.5 mm Pitch; Supplier 1: Digi-Key; Supplier Part Number 1: SST12LP15B-QVCETR-ND; Supplier 2: Digi-Key; Supplier Part Number 2: SST12LP15B-QVCECT-ND; Supplier 3: Digi-Key; Supplier Part Number 3: SST12LP15B-QVCEDKR-ND; Supplier 4: Farnell; Supplier Part Number 4: 2045306RL; Supplier 5: Farnell; Supplier Part Number 5: 2045306; Supplier 6: Newark; Supplier Part Number 6: 58T7509; Supplier 7: Newark; Supplier Part Number 7: 92R4518; Supplier 8: Mouser; Supplier Part Number 8: 579-12LP15BQVCE; Mounting Technology: Surface Mount; Code_JEDEC: MO-220J; ComponentLink1Description: Manufacturer URL; ComponentLink1URL: http://www.microchip.com; ComponentLink2Description: Datasheet; ComponentLink2URL: http://ww1.microchip.com/downloads/en/DeviceDoc/75029A.pdf; ComponentLink3Description: Package Specification; ComponentLink3URL: http://ww1.microchip.com/downloads/en/DeviceDoc/75031A.pdf; ComponentLink4Description: Product URL; ComponentLink4URL: http://www.microchip.com/SST12LP15B
footprint MCHP-VQFN-QVC16_N (QFN, 16-Leads, Body 3x3mm, Pitch 0.5mm, IPC Medium Density)
footprint MCHP-VQFN-QVC16_L (QFN, 16-Leads, Body 3x3mm, Pitch 0.5mm, IPC High Density)
footprint MCHP-VQFN-QVC16_M (QFN, 16-Leads, Body 3x3mm, Pitch 0.5mm, IPC Low Density)
part A pins: 2 RFIN (in) "RF input, DC decoupled", 3 RFIN (in) "RF input, DC decoupled", 5 VCCB (power) "Supply voltage for bias circuit", 6 VREF1 (in) "1st and 2nd stage idle current control", 7 VREF2 (in) "3rd stage idle current control", 9 DET (out) "On-chip power detector", 10 RFOUT (out) "RF output", 11 RFOUT (out) "RF output", 12 VCC3 (power) "Power supply, 3rd stage", 14 VCC2 (power) "Power supply, 2nd stage", 16 VCC1 (power) "Power supply, 1st stage", 17 EP (power) "The center pad should be connected to RF ground with several low inductance, low resistance vias."
part B pins: 1 NC "Unconnected pins.", 4 NC "Unconnected pins.", 8 DNU "Do not use or connect", 13 NC "Unconnected pins.", 15 NC "Unconnected pins."